# EAGLE library part FIN1101K8X (library ds_ic_peripherals)
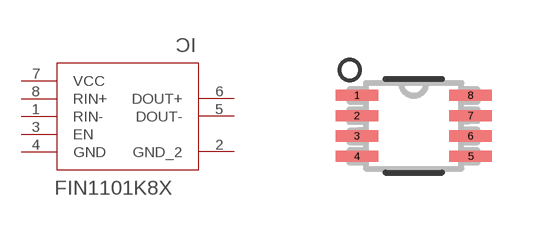
[diagram p67: symbol with the pads of US8-8; footprint US8-8]

Designator prefix IC

## FIN1101K8X (COPYRIGHT: Copyright (C) 2025 Ultra Librarian. All rights reserved.; MANUFACTURER_PART_NUMBER: FIN1101K8X; MFR_NAME: onsemi)  [US8-8]
1  RIN-  pas
2  GND_2  pas
3  EN  pas
4  GND  pas
5  DOUT-  out
6  DOUT+  out
7  VCC  pwr
8  RIN+  pas

## Footprint US8-8 (pad centres in mm)
smd 1.067 x 0.279: 1 -1.422,0.762; 2 -1.422,0.254; 3 -1.422,-0.254; 4 -1.422,-0.762; 5 1.422,-0.762; 6 1.422,-0.254; 7 1.422,0.254; 8 1.422,0.762